# Altium schematic symbol library Schlib1.SchLib: 47 symbols
Pins are listed as number, name and electrical type; pins without a type are passive.

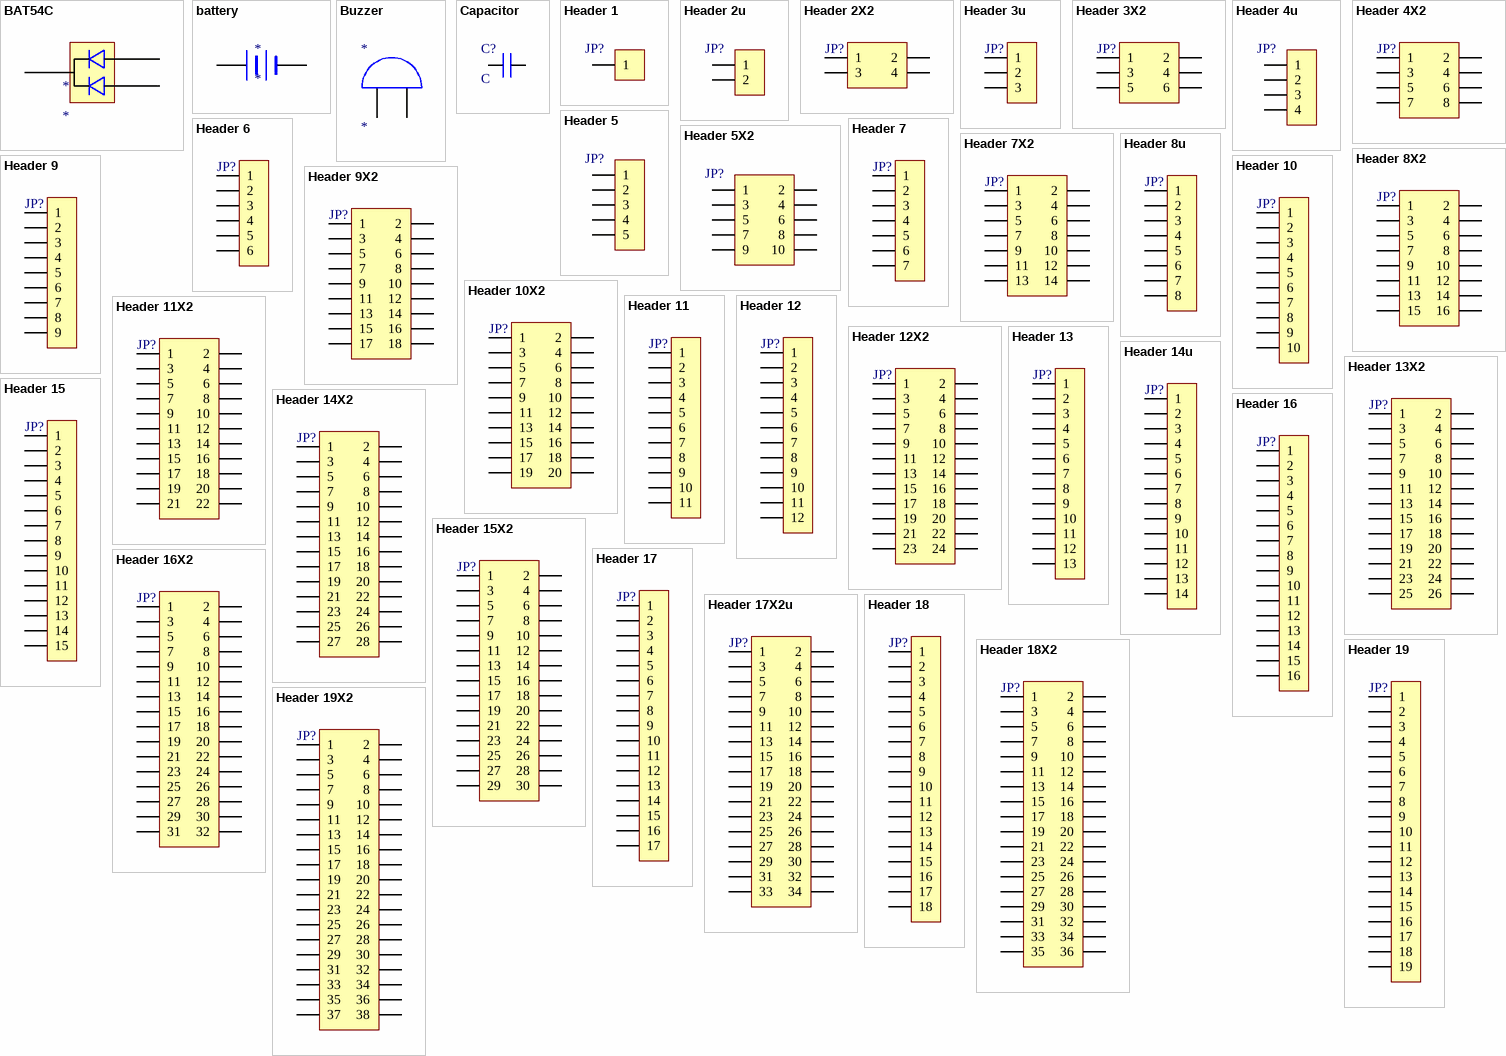
[diagram p0: symbols BAT54C to Header 19X2]

## BAT54C
designator *
footprint BAT54C
pins: 1 *, 2 *, 3 *

## battery
designator *
footprint BAT_SMD
pins: 1 +, 2 -

## Buzzer
designator *
footprint 7525蜂鸣器
pins: 1, 2

## Capacitor
designator C?, comment C
电容; BOM名称: 无极性贴片电容; 版权归属: 源创客; 学习资源: www.ooocke.com
footprint 0805C
pins: 1, 2

## Header 1
designator JP?, comment HDR-1X1  (value not drawn)
1P接插件; 版权归属: 源创客; BOM名称: 1P接插件; 学习资源: www.ooocke.com
footprint HDR-1X1 (排针，1脚)
footprint HDR-1X1_Y (圆孔排母，1脚)
footprint HDR-1X1_H (弯脚排针，1脚)
footprint HDR-1X1_M (排母，1脚)
footprint HDR2.54 S-W-1P (1P卧式贴片排针2.54)
footprint HDR2.54 S-W-1P_M (1P卧式贴片排母2.54)
pins: 1

## Header 2u
designator JP?, comment HDR-1X2  (value not drawn)
2P接插件; 版权归属: 源创客; BOM名称: 2P接插件; 学习资源: www.ooocke.com
footprint HDR-1X2 (排针，2脚)
footprint HDR-1X2_H (弯脚排针，2脚)
footprint HDR-1X2_M (排母，2脚)
footprint HDR-1X2_Y (圆孔排母，2脚)
footprint XH2.54-2P (接插件，2P)
footprint KF2510-2P (接插件/2A)
footprint VH3.96-2P (接插件，25V/5A)
footprint XH2.54-2P_H (接插件，2P)
footprint VH3.96-2P_H (接插件，25V/5A)
footprint KF301-2P (可拼接端子/6A)
footprint KF2EDGK5.0-2P (直列插拔式端子)
footprint PH2.0 D-L-2P (接插件/1A)
footprint PH2.0 D-W-2P (接插件/1A)
footprint KF2EDGK5.0-2P_H (弯角插拔式端子)
footprint KF7620-2P (15.2*12*12mm(长宽高))
footprint KF350-2P (可拼接端子/10A)
footprint KF128-3.81-2P (螺钉式接线端子，脚距3.81mm)
footprint KF128-5.08-2P (螺钉式接线端子，脚距5.08mm)
footprint PH2.0 S-W-2P (长：8mm，宽：7.6mm，高：5.5mm)
footprint KF2EDGK5.08-2P (直列插拔式端子)
footprint KF2EDGK5.08-2P_H (弯角插拔式端子)
footprint HDR2.54 S-W-2P (2P卧式贴片排针2.54)
footprint HDR2.54 S-W-2P_M (2P卧式贴片排母2.54)
footprint KF128-3.81-2P (螺钉式接线端子，脚距3.81mm)
pins: 1, 2

## Header 2X2
designator JP?, comment Header2X2  (value not drawn)
2*2P接插件; 版权归属: 源创客; BOM名称: 2*2P接插件; 学习资源: www.ooocke.com
footprint HDR-2X2 (双排排针，2x2脚)
footprint HDR-2X2_H (双排弯脚排针，2x2脚)
footprint PHB2.0-2x2 (长：6mm，宽：7.3mm，高：7.8mm)
footprint PHD2.0-2x2P (4脚，长：6mm，宽：5mm，高：6.5mm)
footprint HDR2.54 2x2-M-SMD (脚距：2.54mm，贴片双排母)
pins: 1, 2, 3, 4

## Header 3u
designator JP?, comment HDR-1X3  (value not drawn)
3P接插件; 版权归属: 源创客; BOM名称: 3P接插件; 学习资源: www.ooocke.com
footprint HDR-1X3 (排针，3脚)
footprint HDR-1X3_M (排母，3脚)
footprint XH2.54-3P (接插件，3P)
footprint VH3.96-3P (接插件，25V/5A)
footprint XH2.54-3P_H (接插件，3P)
footprint HDR-1X3_H (弯脚排针，3脚)
footprint KF2510-3P (接插件/2A)
footprint HDR-1X3_Y (圆孔排母，3脚)
footprint VH3.96-3P_H (接插件，25V/5A)
footprint KF301-3P (可拼接端子/6A)
footprint KF2EDGK5.0-3P (直列插拔式端子)
footprint PH2.0 D-L-3P (接插件/1A)
footprint PH2.0 D-W-3P (接插件/1A)
footprint KF2EDGK5.0-3P_H (弯角插拔式端子)
footprint KF7620-3P (22.8*12*12mm(长宽高))
footprint KF350-3P (可拼接端子/10A)
footprint KF128-3.81-3P (螺钉式接线端子，脚距3.81mm)
footprint KF128-5.08-3P (螺钉式接线端子，脚距5.08mm)
footprint PH2.0 S-W-3P (长：10mm，宽：7.6mm，高：5.5mm)
footprint KF2EDGK5.08-3P (直列插拔式端子)
footprint KF2EDGK5.08-3P_H (弯角插拔式端子)
footprint HDR2.54 S-W-3P (3P卧式贴片排针2.54)
footprint HDR2.54 S-W-3P_M (3P卧式贴片排母2.54)
pins: 1, 2, 3

## Header 3X2
designator JP?, comment Header3X2  (value not drawn)
3*2P接插件; 版权归属: 源创客; BOM名称: 3*2P接插件; 学习资源: www.ooocke.com
footprint HDR-3X2 (双排弯脚排针，3x2脚)
footprint IDC2.54-6P (6P简易牛角座)
footprint HDR-3X2_H (双排弯脚排针，3x2脚)
footprint PHB2.0-2x3 (长：8mm，宽：7.3mm，高：7.8mm)
footprint PHD2.0-2x3P (6脚，长：8mm，宽：5mm，高：6.5mm)
footprint HDR2.54 2x3-M-SMD (脚距：2.54mm，贴片双排母)
pins: 1, 2, 3, 4, 5, 6

## Header 4u
designator JP?, comment HDR-1X4  (value not drawn)
4P接插件; 版权归属: 源创客; BOM名称: 4P接插件; 学习资源: www.ooocke.com
footprint HDR-1X4 (排针，4脚)
footprint HDR-1X4_M (排母，4脚)
footprint XH2.54-4P (接插件，4P)
footprint KF2510-4P (接插件/2A)
footprint VH3.96-4P_H (接插件，25V/5A)
footprint PH2.0 D-L-4P (接插件/1A)
footprint HDR-1X4_H (弯脚排针，4脚)
footprint HDR-1X4_Y (圆孔排母，4脚)
footprint XH2.54-4P_H (接插件，4P)
footprint PH2.0 D-W-4P (接插件/1A)
footprint KF301-4P (可拼接端子/6A)
footprint KF2EDGK5.0-4P (直列插拔式端子)
footprint KF2EDGK5.0-4P_H (弯角插拔式端子)
footprint KF7620-4P (30.5*12*12mm(长宽高))
footprint KF350-4P (可拼接端子/10A)
footprint KF128-3.81-4P (螺钉式接线端子，脚距3.81mm)
footprint KF128-5.08-4P (螺钉式接线端子，脚距5.08mm)
footprint VH3.96-4P (接插件，25V/5A)
footprint PH2.0 S-W-4P (长：12mm，宽：7.6mm，高：5.5mm)
footprint KF2EDGK5.08-4P (直列插拔式端子)
footprint KF2EDGK5.08-4P_H (弯角插拔式端子)
footprint HDR2.54 S-W-4P (4P卧式贴片排针2.54)
footprint HDR2.54 S-W-4P_M (4P卧式贴片排母2.54)
pins: 1, 2, 3, 4

## Header 4X2
designator JP?  (value not drawn)
4*2P接插件; 版权归属: 源创客; BOM名称: 4*2P接插件; 学习资源: www.ooocke.com
footprint HDR-4X2 (双排排针，4x2脚)
footprint HDR-4X2_H (双排弯脚排针，4x2脚)
footprint IDC2.54-8P (8P简易牛角座)
footprint PHB2.0-2x4 (长：10mm，宽：7.3mm，高：7.8mm)
footprint PHD2.0-2x4P (8脚，长：10mm，宽：5mm，高：6.5mm)
footprint HDR2.54 2x4-M-SMD (脚距：2.54mm，贴片双排母)
pins: 1, 2, 3, 4, 5, 6, 7, 8

## Header 5
designator JP?, comment HDR-1X5  (value not drawn)
5P接插件; 版权归属: 源创客; BOM名称: 5P接插件; 学习资源: www.ooocke.com
footprint HDR-1X5_H (弯脚排针，5脚)
footprint HDR-1X5 (排针，5脚)
footprint HDR-1X5_M (排母，5脚)
footprint XH2.54-5P (接插件，5P)
footprint VH3.96-5P (接插件，25V/5A)
footprint HDR-1X5_Y (圆孔排母，5脚)
footprint KF2510-5P (接插件/2A)
footprint VH3.96-5P_H (接插件，25V/5A)
footprint XH2.54-5P_H (接插件，5P)
footprint KF301-5P (可拼接端子/6A)
footprint KF2EDGK5.0-5P (直列插拔式端子)
footprint PH2.0 D-L-5P (接插件/1A)
footprint PH2.0 D-W-5P (接插件/1A)
footprint KF2EDGK5.0-5P_H (弯角插拔式端子)
footprint KF7620-5P (38.1*12*12mm(长宽高))
footprint KF350-5P (可拼接端子/10A)
footprint KF128-3.81-5P (螺钉式接线端子，脚距3.81mm)
footprint KF128-5.08-5P (螺钉式接线端子，脚距5.08mm)
footprint PH2.0 S-W-5P (长：14mm，宽：7.6mm，高：5.5mm)
footprint KF2EDGK5.08-5P (直列插拔式端子)
footprint KF2EDGK5.08-5P_H (弯角插拔式端子)
footprint HDR2.54 S-W-5P (5P卧式贴片排针2.54)
footprint HDR2.54 S-W-5P_M (5P卧式贴片排母2.54)
pins: 1, 2, 3, 4, 5

## Header 5X2
designator JP?  (value not drawn)
5*2P接插件; 版权归属: 源创客; BOM名称: 5*2P接插件; 学习资源: www.ooocke.com
footprint HDR-5X2 (双排排针，5x2脚)
footprint IDC2.54-10P (10P简易牛角座)
footprint HDR-5X2_H (双排弯脚排针，5x2脚)
footprint PHB2.0-2x5 (长：12mm，宽：7.3mm，高：7.8mm)
footprint PHD2.0-2x5P (10脚，长：12mm，宽：5mm，高：6.5mm)
footprint HDR2.54 2x5-M-SMD (脚距：2.54mm，贴片双排母)
pins: 1, 2, 3, 4, 5, 6, 7, 8, 9, 10

## Header 6
designator JP?, comment HDR-1X6  (value not drawn)
6P接插件; 版权归属: 源创客; BOM名称: 6P接插件; 学习资源: www.ooocke.com
footprint HDR-1X6 (排针，6脚)
footprint HDR-1X6_M (排母，6脚)
footprint XH2.54-6P (接插件，6P)
footprint VH3.96-6P_H (接插件，25V/5A)
footprint KF2510-6P (接插件/2A)
footprint XH2.54-6P_H (接插件，6P)
footprint HDR-1X6_Y (圆孔排母，6脚)
footprint HDR-1X6_H (弯脚排针，6脚)
footprint VH3.96-6P (接插件，25V/5A)
footprint KF301-6P (可拼接端子/6A)
footprint KF2EDGK5.0-6P (直列插拔式端子)
footprint PH2.0 D-L-6P (接插件/1A)
footprint PH2.0 D-W-6P (接插件/1A)
footprint KF2EDGK5.0-6P_H (弯角插拔式端子)
footprint KF7620-6P (45.7*12*12mm(长宽高))
footprint KF350-6P (可拼接端子/10A)
footprint KF128-5.08-6P (螺钉式接线端子，脚距5.08mm)
footprint KF128-3.81-6P (螺钉式接线端子，脚距3.81mm)
footprint PH2.0 S-W-6P (长：16mm，宽：7.6mm，高：5.5mm)
footprint KF2EDGK5.08-6P (直列插拔式端子)
footprint KF2EDGK5.08-6P_H (弯角插拔式端子)
footprint HDR2.54 S-W-6P (6P卧式贴片排针2.54)
footprint HDR2.54 S-W-6P_M (6P卧式贴片排母2.54)
pins: 1, 2, 3, 4, 5, 6

## Header 7
designator JP?, comment HDR-1X7  (value not drawn)
7P接插件; 版权归属: 源创客; BOM名称: 7P接插件; 学习资源: www.ooocke.com
footprint HDR-1X7 (排针，8脚)
footprint HDR-1X7_M (排母，7脚)
footprint XH2.54-7P (接插件，7P)
footprint VH3.96-7P (接插件，25V/5A)
footprint PH2.0 D-W-7P (接插件/1A)
footprint KF2510-7P (接插件/2A)
footprint XH2.54-7P_H (接插件，7P)
footprint HDR-1X7_Y (圆孔排母，7脚)
footprint HDR-1X7_H (弯脚排针，7脚)
footprint KF301-7P (可拼接端子/6A)
footprint KF2EDGK5.0-7P (直列插拔式端子)
footprint PH2.0 D-L-7P (接插件/1A)
footprint KF2EDGK5.0-7P_H (弯角插拔式端子)
footprint KF7620-7P (Footprint not found)
footprint KF350-7P (可拼接端子/10A)
footprint KF128-5.08-7P (螺钉式接线端子，脚距5.08mm)
footprint KF128-3.81-7P (螺钉式接线端子，脚距3.81mm)
footprint PH2.0 S-W-7P (长：18mm，宽：7.6mm，高：5.5mm)
footprint KF2EDGK5.08-7P (直列插拔式端子)
footprint KF2EDGK5.08-7P_H (弯角插拔式端子)
footprint VH3.96-7P_H (接插件，25V/5A)
footprint HDR2.54 S-W-7P (7P卧式贴片排针2.54)
footprint HDR2.54 S-W-7P_M (7P卧式贴片排母2.54)
pins: 1, 2, 3, 4, 5, 6, 7

## Header 7X2
designator JP?, comment Header 2X7  (value not drawn)
7*2P接插件; 版权归属: 源创客; BOM名称: 7*2P接插件; 学习资源: www.ooocke.com
footprint HDR-7X2 (双排排针，7x2脚)
footprint IDC2.54-14P (14P简易牛角座)
footprint HDR-7X2_H (双排弯脚排针，7x2脚)
footprint PHB2.0-2x7 (长：16mm，宽：7.3mm，高：7.8mm)
footprint PHD2.0-2x7P (14脚，长：16mm，宽：5mm，高：6.5mm)
footprint HDR2.54 2x7-M-SMD (脚距：2.54mm，贴片双排母)
pins: 1, 2, 3, 4, 5, 6, 7, 8, 9, 10, 11, 12, 13, 14

## Header 8u
designator JP?, comment HDR-1X8  (value not drawn)
8P接插件; 版权归属: 源创客; BOM名称: 8P接插件; 学习资源: www.ooocke.com
footprint HDR-1X8 (排针，8脚)
footprint HDR-1X8_M (排母，8脚)
footprint XH2.54-8P (接插件，8P)
footprint VH3.96-8P_H (接插件，25V/5A)
footprint VH3.96-8P (接插件，25V/5A)
footprint KF2510-8P (接插件/2A)
footprint XH2.54-8P_H (接插件，8P)
footprint HDR-1X8_Y (圆孔排母，8脚)
footprint HDR-1X8_H (弯脚排针，8脚)
footprint KF301-8P (可拼接端子/6A)
footprint KF2EDGK5.0-8P (直列插拔式端子)
footprint PH2.0 D-L-8P (接插件/1A)
footprint PH2.0 D-W-8P (接插件/1A)
footprint KF2EDGK5.0-8P_H (弯角插拔式端子)
footprint KF7620-8P (61*12*12mm(长宽高))
footprint KF350-8P (可拼接端子/10A)
footprint KF128-3.81-8P (螺钉式接线端子，脚距3.81mm)
footprint KF128-5.08-8P (螺钉式接线端子，脚距5.08mm)
footprint PH2.0 S-W-8P (长：20mm，宽：7.6mm，高：5.5mm)
footprint KF2EDGK5.08-8P (直列插拔式端子)
footprint KF2EDGK5.08-8P_H (弯角插拔式端子)
footprint HDR2.54 S-W-8P (8P卧式贴片排针2.54)
footprint HDR2.54 S-W-8P_M (8P卧式贴片排母2.54)
pins: 1, 2, 3, 4, 5, 6, 7, 8

## Header 8X2
designator JP?  (value not drawn)
8*2P接插件; 版权归属: 源创客; BOM名称: 8*2P接插件; 学习资源: www.ooocke.com
footprint HDR-8X2 (双排排针，8x2脚)
footprint IDC2.54-16P (16P简易牛角座)
footprint HDR-8X2_H (双排弯脚排针，8x2脚)
footprint PHB2.0-2x8 (长：18mm，宽：7.3mm，高：7.8mm)
footprint PHD2.0-2x8P (16脚，长：18mm，宽：5mm，高：6.5mm)
footprint HDR2.54 2x8-M-SMD (脚距：2.54mm，贴片双排母)
pins: 1, 2, 3, 4, 5, 6, 7, 8, 9, 10, 11, 12, 13, 14, 15, 16

## Header 9
designator JP?, comment HDR-1X9  (value not drawn)
9P接插件; 版权归属: 源创客; BOM名称: 9P接插件; 学习资源: www.ooocke.com
footprint HDR-1X9 (排针，9脚)
footprint HDR-1X9_H (弯脚排针，9脚)
footprint HDR-1X9_Y (圆孔排母，9脚)
footprint PH2.0 D-L-9P (接插件/1A)
footprint PH2.0 D-W-9P (接插件/1A)
footprint XH2.54-9P (接插件，9P)
footprint XH2.54-9P_H (接插件，9P)
footprint HDR-1X9_M (排母，9脚)
footprint KF128-3.81-9P (螺钉式接线端子，脚距3.81mm)
footprint KF128-5.08-9P (螺钉式接线端子，脚距5.08mm)
footprint PH2.0 S-W-9P (长：22mm，宽：7.6mm，高：5.5mm)
footprint HDR2.54 S-W-9P (9P卧式贴片排针2.54)
footprint HDR2.54 S-W-9P_M (9P卧式贴片排母2.54)
pins: 1, 2, 3, 4, 5, 6, 7, 8, 9

## Header 9X2
designator JP?  (value not drawn)
9*2P接插件; 版权归属: 源创客; BOM名称: 9*2P接插件; 学习资源: www.ooocke.com
footprint HDR-9X2 (双排排针，9x2脚)
footprint HDR-9X2_H (双排弯脚排针，9x2脚)
footprint PHB2.0-2x9 (长：20mm，宽：7.3mm，高：7.8mm)
footprint PHD2.0-2x9P (18脚，长：20mm，宽：5mm，高：6.5mm)
footprint HDR2.54 2x9-M-SMD (脚距：2.54mm，贴片双排母)
pins: 1, 2, 3, 4, 5, 6, 7, 8, 9, 10, 11, 12, 13, 14, 15, 16, 17, 18

## Header 10
designator JP?, comment HDR-1X10  (value not drawn)
10P接插件; 版权归属: 源创客; BOM名称: 10P接插件; 学习资源: www.ooocke.com
footprint HDR-1X10 (排针，10脚)
footprint HDR-1X10_H (弯脚排针，10脚)
footprint HDR-1X10_Y (圆孔排母，10脚)
footprint PH2.0 D-L-10P (接插件/1A)
footprint PH2.0 D-W-10P (接插件/1A)
footprint XH2.54-10P (接插件，10P)
footprint XH2.54-10P_H
footprint HDR-1X10_M (排母，10脚)
footprint MX 1.25-DIP-10P (10脚，长：14.5mm，宽：3.2mm，高：4.2mm)
footprint MX 1.25-DIP-10P_H (10脚，长：14.5mm，宽：1.8mm，高：3.3mm)
footprint MX 1.25-SMD-10P (10脚，长：14.5mm，宽：3.2mm，高：4.2mm)
footprint MX 1.25-SMD-10P_V (10脚，长：14.5mm，宽：4.2mm，高：3.4mm)
footprint KF128-5.08-10P (螺钉式接线端子，脚距5.08mm)
footprint KF128-3.81-10P (螺钉式接线端子，脚距3.81mm)
footprint PH2.0 S-W-10P (长：24mm，宽：7.6mm，高：5.5mm)
footprint HDR2.54 S-W-10P (10P卧式贴片排针2.54)
footprint HDR2.54 S-W-10P_M (10P卧式贴片排母2.54)
pins: 1, 2, 3, 4, 5, 6, 7, 8, 9, 10

## Header 10X2
designator JP?, comment Header 2X10  (value not drawn)
10*2P接插件; 版权归属: 源创客; BOM名称: 10*2P接插件; 学习资源: www.ooocke.com
footprint HDR-10X2 (双排排针，10x2脚)
footprint IDC2.54-20P (20P简易牛角座)
footprint HDR-10X2_H
footprint PHB2.0-2x10 (长：22mm，宽：7.3mm，高：7.8mm)
footprint PHD2.0-2x10P (20脚，长：22mm，宽：5mm，高：6.5mm)
footprint HDR2.54 2x10-M-SMD (脚距：2.54mm，贴片双排母)
pins: 1, 2, 3, 4, 5, 6, 7, 8, 9, 10, 11, 12, 13, 14, 15, 16, 17, 18, 19, 20

## Header 11
designator JP?, comment HDR-1X11  (value not drawn)
11P接插件; 版权归属: 源创客; BOM名称: 11P接插件; 学习资源: www.ooocke.com
footprint HDR-1X11 (排针)
footprint HDR-1X11_H (弯脚排针，11脚)
footprint HDR-1X11_Y (圆孔排母，11脚)
footprint PH2.0 D-L-11P (接插件/1A)
footprint PH2.0 D-W-11P (接插件/1A)
footprint XH2.54-11P (接插件，11P)
footprint XH2.54-11P_H (接插件，11P)
footprint HDR-1X11_M (排母，11脚)
footprint KF128-3.81-11P (螺钉式接线端子，脚距3.81mm)
footprint KF128-5.08-11P (螺钉式接线端子，脚距5.08mm)
footprint PH2.0 S-W-11P (长：26mm，宽：7.6mm，高：5.5mm)
footprint HDR2.54 S-W-11P (11P卧式贴片排针2.54)
footprint HDR2.54 S-W-11P_M (11P卧式贴片排母2.54)
pins: 1, 2, 3, 4, 5, 6, 7, 8, 9, 10, 11

## Header 11X2
designator JP?, comment Header 2X11  (value not drawn)
11*2P接插件; 版权归属: 源创客; BOM名称: 11*2P接插件; 学习资源: www.ooocke.com
footprint HDR-11X2 (双排排针，11x2脚)
footprint HDR-11X2_H (双排弯脚排针，11x2脚)
footprint PHB2.0-2x11 (长：24mm，宽：7.3mm，高：7.8mm)
footprint PHD2.0-2x11P (22脚，长：24mm，宽：5mm，高：6.5mm)
footprint HDR2.54 2x11-M-SMD (脚距：2.54mm，贴片双排母)
pins: 1, 2, 3, 4, 5, 6, 7, 8, 9, 10, 11, 12, 13, 14, 15, 16, 17, 18, 19, 20, 21, 22

## Header 12
designator JP?, comment HDR-1X12  (value not drawn)
12P接插件; 版权归属: 源创客; BOM名称: 12P接插件; 学习资源: www.ooocke.com
footprint HDR-1X12 (排针，13脚)
footprint HDR-1X12_H (弯脚排针，12脚)
footprint HDR-1X12_Y (圆孔排母，12脚)
footprint PH2.0 D-L-12P (接插件/1A)
footprint PH2.0 D-W-12P (接插件/1A)
footprint XH2.54-12P (接插件，12P)
footprint XH2.54-12P_H (接插件，12P)
footprint HDR-1X12_M (排母，12脚)
footprint KF128-3.81-12P (螺钉式接线端子，脚距3.81mm)
footprint KF128-5.08-12P (螺钉式接线端子，脚距5.08mm)
footprint PH2.0 S-W-12P (长：28mm，宽：7.6mm，高：5.5mm)
footprint HDR2.54 S-W-12P (12P卧式贴片排针2.54)
footprint HDR2.54 S-W-12P_M (12P卧式贴片排母2.54)
pins: 1, 2, 3, 4, 5, 6, 7, 8, 9, 10, 11, 12

## Header 12X2
designator JP?, comment Header 2X11  (value not drawn)
12*2P接插件; 版权归属: 源创客; BOM名称: 12*2P接插件; 学习资源: www.ooocke.com
footprint HDR-12X2 (双排排针，12x2脚)
footprint IDC2.54-24P (24P简易牛角座)
footprint HDR-12X2_H (双排弯脚排针，12x2脚)
footprint PHB2.0-2x12 (长：26mm，宽：7.3mm，高：7.8mm)
footprint PHD2.0-2x12P (24脚，长：26mm，宽：5mm，高：6.5mm)
footprint HDR2.54 2x12-M-SMD (脚距：2.54mm，贴片双排母)
pins: 1, 2, 3, 4, 5, 6, 7, 8, 9, 10, 11, 12, 13, 14, 15, 16, 17, 18, 19, 20, 21, 22, 23, 24

## Header 13
designator JP?, comment HDR-1X13  (value not drawn)
13P接插件; 版权归属: 源创客; BOM名称: 13P接插件; 学习资源: www.ooocke.com
footprint HDR-1X13 (排针，13脚)
footprint HDR-1X13_H (弯脚排针，13脚)
footprint HDR-1X13_Y (圆孔排母，13脚)
footprint HDR-1X13_M (排母，13脚)
footprint KF128-3.81-13P (螺钉式接线端子，脚距3.81mm)
footprint KF128-5.08-13P (螺钉式接线端子，脚距5.08mm)
footprint PH2.0 S-W-13P (长：30mm，宽：7.6mm，高：5.5mm)
footprint HDR2.54 S-W-13P (13P卧式贴片排针2.54)
footprint HDR2.54 S-W-13P_M (13P卧式贴片排母2.54)
pins: 1, 2, 3, 4, 5, 6, 7, 8, 9, 10, 11, 12, 13

## Header 13X2
designator JP?, comment Header 2X11  (value not drawn)
13*2P接插件; 版权归属: 源创客; BOM名称: 13*2P接插件; 学习资源: www.ooocke.com
footprint HDR-13X2 (双排排针，13x2脚)
footprint IDC2.54-26P (26P简易牛角座)
footprint HDR-13X2_H (双排弯脚排针，13x2脚)
footprint PHB2.0-2x13 (长：28mm，宽：7.3mm，高：7.8mm)
footprint PHD2.0-2x13P (26脚，长：28mm，宽：5mm，高：6.5mm)
footprint HDR2.54 2x13-M-SMD (脚距：2.54mm，贴片双排母)
pins: 1, 2, 3, 4, 5, 6, 7, 8, 9, 10, 11, 12, 13, 14, 15, 16, 17, 18, 19, 20, 21, 22, 23, 24, 25, 26

## Header 14u
designator JP?, comment HDR-1X14  (value not drawn)
14P接插件; 版权归属: 源创客; BOM名称: 14P接插件; 学习资源: www.ooocke.com
footprint HDR-1X14_H (弯脚排针，14脚)
footprint HDR-1X14 (排针，14脚)
footprint HDR-1X14_Y (圆孔排母，14脚)
footprint HDR-1X14_M (排母，14脚)
footprint KF128-5.08-14P (螺钉式接线端子，脚距5.08mm)
footprint KF128-3.81-14P (螺钉式接线端子，脚距3.81mm)
footprint PH2.0 S-W-14P (长：32mm，宽：7.6mm，高：5.5mm)
footprint HDR2.54 S-W-14P (14P卧式贴片排针2.54)
footprint HDR2.54 S-W-14P_M (14P卧式贴片排母2.54)
pins: 1, 2, 3, 4, 5, 6, 7, 8, 9, 10, 11, 12, 13, 14

## Header 14X2
designator JP?, comment Header 2X11  (value not drawn)
14*2P接插件; 版权归属: 源创客; BOM名称: 14*2P接插件; 学习资源: www.ooocke.com
footprint HDR-14X2 (双排排针，14x2脚)
footprint HDR-14X2_H (双排弯脚排针，14x2脚)
footprint PHB2.0-2x14 (长：30mm，宽：7.3mm，高：7.8mm)
footprint PHD2.0-2x14P (28脚，长：30mm，宽：5mm，高：6.5mm)
footprint HDR2.54 2x14-M-SMD (脚距：2.54mm，贴片双排母)
pins: 1, 2, 3, 4, 5, 6, 7, 8, 9, 10, 11, 12, 13, 14, 15, 16, 17, 18, 19, 20, 21, 22, 23, 24, 25, 26, 27, 28

## Header 15
designator JP?, comment HDR-1X15  (value not drawn)
15P接插件; 版权归属: 源创客; BOM名称: 15P接插件; 学习资源: www.ooocke.com
footprint HDR-1X15_H (弯脚排针，15脚)
footprint HDR-1X15 (排针，15脚)
footprint HDR-1X15_Y (圆孔排母，15脚)
footprint HDR-1X15_M (排母，15脚)
footprint KF128-5.08-15P (螺钉式接线端子，脚距5.08mm)
footprint KF128-3.81-15P (螺钉式接线端子，脚距3.81mm)
footprint PH2.0 S-W-15P (长：34mm，宽：7.6mm，高：5.5mm)
footprint HDR2.54 S-W-15P (15P卧式贴片排针2.54)
footprint HDR2.54 S-W-15P_M (15P卧式贴片排母2.54)
pins: 1, 2, 3, 4, 5, 6, 7, 8, 9, 10, 11, 12, 13, 14, 15

## Header 15X2
designator JP?, comment Header 2X11  (value not drawn)
15*2P接插件; 版权归属: 源创客; BOM名称: 15*2P接插件; 学习资源: www.ooocke.com
footprint HDR-15X2 (双排排针，15x2脚)
footprint IDC2.54-30P (30P简易牛角座)
footprint HDR-15X2_H (双排弯脚排针，15x2脚)
footprint PHB2.0-2x15 (长：32mm，宽：7.3mm，高：7.8mm)
footprint PHD2.0-2x15P (30脚，长：32mm，宽：5mm，高：6.5mm)
footprint HDR2.54 2x15-M-SMD (脚距：2.54mm，贴片双排母)
pins: 1, 2, 3, 4, 5, 6, 7, 8, 9, 10, 11, 12, 13, 14, 15, 16, 17, 18, 19, 20, 21, 22, 23, 24, 25, 26, 27, 28, 29, 30

## Header 16
designator JP?, comment HDR-1X16  (value not drawn)
16P接插件; 版权归属: 源创客; BOM名称: 16P接插件; 学习资源: www.ooocke.com
footprint HDR-1X16 (排针，16脚)
footprint HDR-1X16_H (弯脚排针，16脚)
footprint HDR-1X16_Y (圆孔排母，16脚)
footprint HDR-1X16_M (排母，16脚)
footprint KF128-3.81-16P (螺钉式接线端子，脚距3.81mm)
footprint KF128-5.08-16P (螺钉式接线端子，脚距5.08mm)
footprint PH2.0 S-W-16P (长：36mm，宽：7.6mm，高：5.5mm)
footprint HDR2.54 S-W-16P (16P卧式贴片排针2.54)
footprint HDR2.54 S-W-16P_M (16P卧式贴片排母2.54)
pins: 1, 2, 3, 4, 5, 6, 7, 8, 9, 10, 11, 12, 13, 14, 15, 16

## Header 16X2
designator JP?, comment Header 2X11  (value not drawn)
16*2P接插件; 版权归属: 源创客; BOM名称: 16*2P接插件; 学习资源: www.ooocke.com
footprint HDR-16X2 (双排排针，16x2脚)
footprint HDR-16X2_H (双排弯脚排针，16x2脚)
footprint PHD2.0-2x16P (32脚，长：34mm，宽：5mm，高：6.5mm)
footprint HDR2.54 2x16-M-SMD (脚距：2.54mm，贴片双排母)
pins: 1, 2, 3, 4, 5, 6, 7, 8, 9, 10, 11, 12, 13, 14, 15, 16, 17, 18, 19, 20, 21, 22, 23, 24, 25, 26, 27, 28, 29, 30, 31, 32

## Header 17
designator JP?, comment HDR-1X17  (value not drawn)
17P接插件; 版权归属: 源创客; BOM名称: 17P接插件; 学习资源: www.ooocke.com
footprint HDR-1X17 (排针，17脚)
footprint HDR-1X17_H (弯脚排针，17脚)
footprint HDR-1X17_Y (圆孔排母，17脚)
footprint HDR-1X17_M (排母，17脚)
footprint PH2.0 S-W-17P (长：38mm，宽：7.6mm，高：5.5mm)
footprint HDR2.54 S-W-17P (17P卧式贴片排针2.54)
footprint HDR2.54 S-W-17P_M (17P卧式贴片排母2.54)
pins: 1, 2, 3, 4, 5, 6, 7, 8, 9, 10, 11, 12, 13, 14, 15, 16, 17

## Header 17X2u
designator JP?, comment Header 2X11  (value not drawn)
17*2P接插件; 版权归属: 源创客; BOM名称: 17*2P接插件; 学习资源: www.ooocke.com
footprint HDR-17X2 (双排排针，17x2脚)
footprint IDC2.54-34P (34P简易牛角座)
footprint HDR-17X2_H (双排弯脚排针，17x2脚)
footprint PHD2.0-2x17P (34脚，长：36mm，宽：5mm，高：6.5mm)
footprint HDR2.54 2x17-M-SMD (脚距：2.54mm，贴片双排母)
pins: 1, 2, 3, 4, 5, 6, 7, 8, 9, 10, 11, 12, 13, 14, 15, 16, 17, 18, 19, 20, 21, 22, 23, 24, 25, 26, 27, 28, 29, 30, 31, 32, 33, 34

## Header 18
designator JP?, comment HDR-1X18  (value not drawn)
18P接插件; 版权归属: 源创客; BOM名称: 18P接插件; 学习资源: www.ooocke.com
footprint HDR-1X18 (排针，18脚)
footprint HDR-1X18_H (弯脚排针，18脚)
footprint HDR-1X18_Y (圆孔排母，18脚)
footprint HDR-1X18_M (排母，18脚)
footprint PH2.0 S-W-18P (长：40mm，宽：7.6mm，高：5.5mm)
footprint HDR2.54 S-W-18P (18P卧式贴片排针2.54)
footprint HDR2.54 S-W-18P_M (18P卧式贴片排母2.54)
pins: 1, 2, 3, 4, 5, 6, 7, 8, 9, 10, 11, 12, 13, 14, 15, 16, 17, 18

## Header 18X2
designator JP?, comment Header 2X11  (value not drawn)
18*2P接插件; 版权归属: 源创客; BOM名称: 18*2P接插件; 学习资源: www.ooocke.com
footprint HDR-18X2 (双排排针，18x2脚)
footprint HDR-18X2_H (双排弯脚排针，18x2脚)
footprint PHD2.0-2x18P (36脚，长：38mm，宽：5mm，高：6.5mm)
footprint HDR2.54 2x18-M-SMD (脚距：2.54mm，贴片双排母)
pins: 1, 2, 3, 4, 5, 6, 7, 8, 9, 10, 11, 12, 13, 14, 15, 16, 17, 18, 19, 20, 21, 22, 23, 24, 25, 26, 27, 28, 29, 30, 31, 32, 33, 34, 35, 36

## Header 19
designator JP?, comment HDR-1X19  (value not drawn)
19P接插件; 版权归属: 源创客; BOM名称: 19P接插件; 学习资源: www.ooocke.com
footprint HDR-1X19 (排针，19脚)
footprint HDR-1X19_H (弯脚排针，19脚)
footprint HDR-1X19_Y (圆孔排母，19脚)
footprint HDR-1X19_M (排母，19脚)
footprint PH2.0 S-W-19P (长：42mm，宽：7.6mm，高：5.5mm)
footprint HDR2.54 S-W-19P (19P卧式贴片排针2.54)
footprint HDR2.54 S-W-19P_M (19P卧式贴片排母2.54)
pins: 1, 2, 3, 4, 5, 6, 7, 8, 9, 10, 11, 12, 13, 14, 15, 16, 17, 18, 19

## Header 19X2
designator JP?, comment Header 2X11  (value not drawn)
19*2P接插件; 版权归属: 源创客; BOM名称: 19*2P接插件; 学习资源: www.ooocke.com
footprint HDR-19X2 (双排排针，19x2脚)
footprint HDR-19X2_H (双排弯脚排针，19x2脚)
footprint PHD2.0-2x19P (38脚，长：40mm，宽：5mm，高：6.5mm)
footprint HDR2.54 2x19-M-SMD (脚距：2.54mm，贴片双排母)
pins: 1, 2, 3, 4, 5, 6, 7, 8, 9, 10, 11, 12, 13, 14, 15, 16, 17, 18, 19, 20, 21, 22, 23, 24, 25, 26, 27, 28, 29, 30, 31, 32, 33, 34, 35, 36, 37, 38

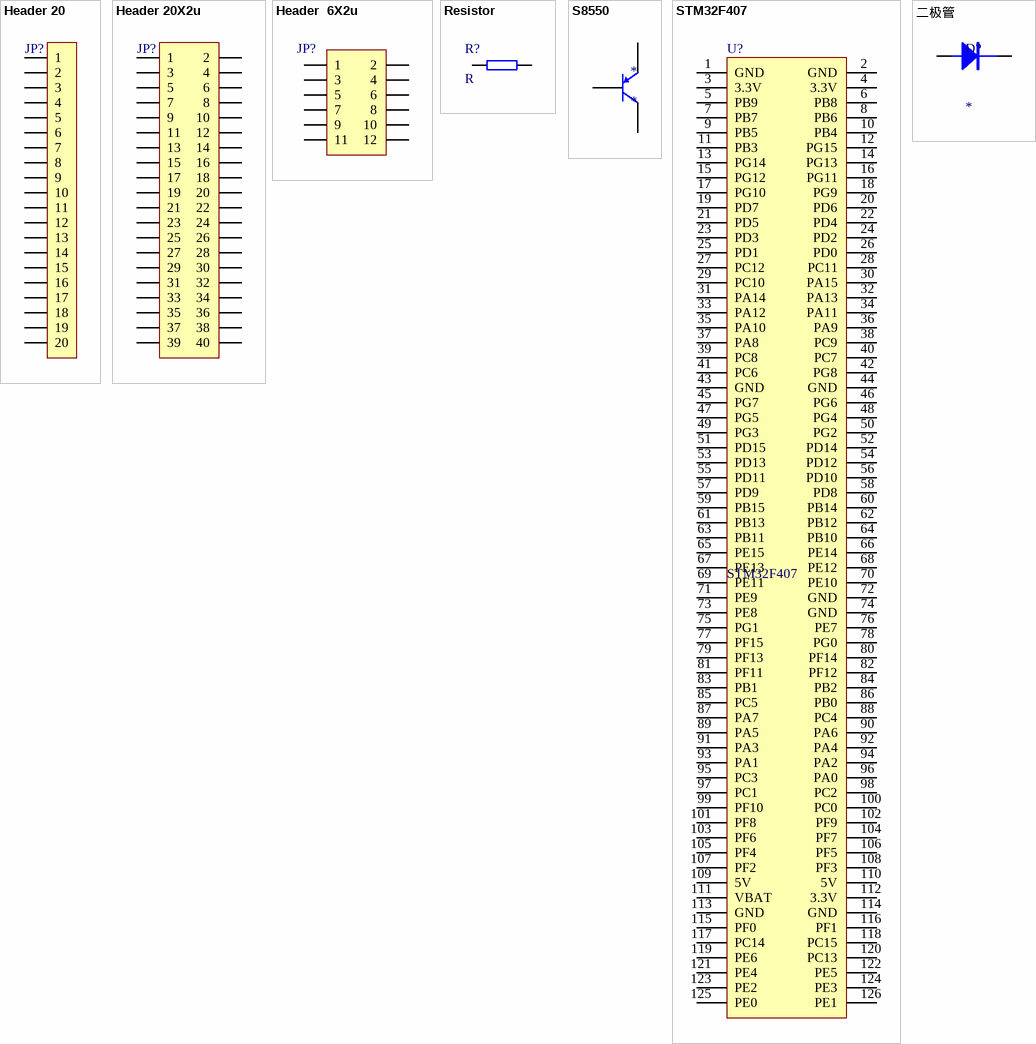
[diagram p1: symbols Header 20 to 二极管]

## Header 20
designator JP?, comment HDR-1X20  (value not drawn)
20P接插件; 版权归属: 源创客; BOM名称: 20P接插件; 学习资源: www.ooocke.com
footprint HDR-1X20 (排针，20脚)
footprint HDR-1X20_H (弯脚排针，20脚)
footprint HDR-1X20_Y (圆孔排母，20脚)
footprint HDR-1X20_M (排母，20脚)
footprint PH2.0 S-W-20P (长：44mm，宽：7.6mm，高：5.5mm)
footprint HDR2.54 S-W-20P (20P卧式贴片排针2.54)
footprint HDR2.54 S-W-20P_M (20P卧式贴片排母2.54)
pins: 1, 2, 3, 4, 5, 6, 7, 8, 9, 10, 11, 12, 13, 14, 15, 16, 17, 18, 19, 20

## Header 20X2u
designator JP?, comment Header 2X11  (value not drawn)
20*2P接插件; 版权归属: 源创客; BOM名称: 20*2P接插件; 学习资源: www.ooocke.com
footprint HDR-20X2 (双排排针，20x2脚)
footprint IDC2.54-40P (40P简易牛角座)
footprint HDR-20X2_H (双排弯脚排针，20x2脚)
footprint PHD2.0-2x20P (40脚，长：42mm，宽：5mm，高：6.5mm)
footprint HDR2.54 2x20-M-SMD (脚距：2.54mm，贴片双排母)
pins: 1, 2, 3, 4, 5, 6, 7, 8, 9, 10, 11, 12, 13, 14, 15, 16, 17, 18, 19, 20, 21, 22, 23, 24, 25, 26, 27, 28, 29, 30, 31, 32, 33, 34, 35, 36, 37, 38, 39, 40

## Header  6X2u
designator JP?, comment Header 6X2  (value not drawn)
6*2P接插件; 版权归属: 源创客; BOM名称: 6*2P接插件; 学习资源: www.ooocke.com
footprint HDR-6X2 (双排排针，6x2脚)
footprint HDR-6X2_H (双排弯脚排针，6x2脚)
footprint IDC2.54-12P (12P简易牛角座)
footprint PHB2.0-2x6 (长：14mm，宽：7.3mm，高：7.8mm)
footprint PHD2.0-2x6P (12脚，长：14mm，宽：5mm，高：6.5mm)
footprint HDR2.54 2x6-M-SMD (脚距：2.54mm，贴片双排母)
pins: 1, 2, 3, 4, 5, 6, 7, 8, 9, 10, 11, 12

## Resistor
designator R?, comment R
电阻; BOM名称: 贴片电阻; 版权归属: 源创客; 学习资源: www.ooocke.com
footprint 0805R
pins: 1, 2

## S8550
designator *
footprint BAT54C/S8550
pins: 1 E, 2 B, 3 C

## STM32F407
designator U?
Header, 126-Pin, Dual row; LatestRevisionDate: 17-Jul-2002; LatestRevisionNote: Re-released for DXP Platform.; Publisher: Altium Limited
footprint STM32F407ZGT6
pins: 1 GND, 2 GND, 3 3.3V, 4 3.3V, 5 PB9, 6 PB8, 7 PB7, 8 PB6, 9 PB5, 10 PB4, 11 PB3, 12 PG15, 13 PG14, 14 PG13, 15 PG12, 16 PG11, 17 PG10, 18 PG9, 19 PD7, 20 PD6, 21 PD5, 22 PD4, 23 PD3, 24 PD2, 25 PD1, 26 PD0, 27 PC12, 28 PC11, 29 PC10, 30 PA15, 31 PA14, 32 PA13, 33 PA12, 34 PA11, 35 PA10, 36 PA9, 37 PA8, 38 PC9, 39 PC8, 40 PC7, 41 PC6, 42 PG8, 43 GND, 44 GND, 45 PG7, 46 PG6, 47 PG5, 48 PG4, 49 PG3, 50 PG2, 51 PD15, 52 PD14, 53 PD13, 54 PD12, 55 PD11, 56 PD10, 57 PD9, 58 PD8, 59 PB15, 60 PB14, 61 PB13, 62 PB12, 63 PB11, 64 PB10, 65 PE15, 66 PE14, 67 PE13, 68 PE12, 69 PE11, 70 PE10, 71 PE9, 72 GND, 73 PE8, 74 GND, 75 PG1, 76 PE7, 77 PF15, 78 PG0, 79 PF13, 80 PF14, 81 PF11, 82 PF12, 83 PB1, 84 PB2, 85 PC5, 86 PB0, 87 PA7, 88 PC4, 89 PA5, 90 PA6, 91 PA3, 92 PA4, 93 PA1, 94 PA2, 95 PC3, 96 PA0, 97 PC1, 98 PC2, 99 PF10, 100 PC0, 101 PF8, 102 PF9, 103 PF6, 104 PF7, 105 PF4, 106 PF5, 107 PF2, 108 PF3, 109 5V, 110 5V, 111 VBAT, 112 3.3V, 113 GND, 114 GND, 115 PF0, 116 PF1, 117 PC14, 118 PC15, 119 PE6, 120 PC13, 121 PE4, 122 PE5, 123 PE2, 124 PE3, 125 PE0, 126 PE1

## 二极管
designator D?
footprint SOD-123
pins: 1 A, 2 K